# Altium schematic symbol library TPS51206DSQR.Schlib: 1 symbol
Pins are listed as number, name and electrical type; pins without a type are passive.

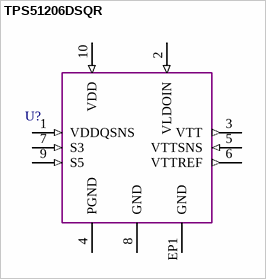
[diagram p0: symbol TPS51206DSQR]

## TPS51206DSQR
designator U?  (value not drawn)
pins: 1 VDDQSNS (in), 2 VLDOIN (in), 3 VTT (out), 4 PGND, 5 VTTSNS (in), 6 VTTREF (out), 7 S3 (in), 8 GND, 9 S5 (in), 10 VDD (in), EP1 GND